# Altium schematic symbol library ESP32_sensor.SchLib: 15 symbols
Pins are listed as number, name and electrical type; pins without a type are passive.

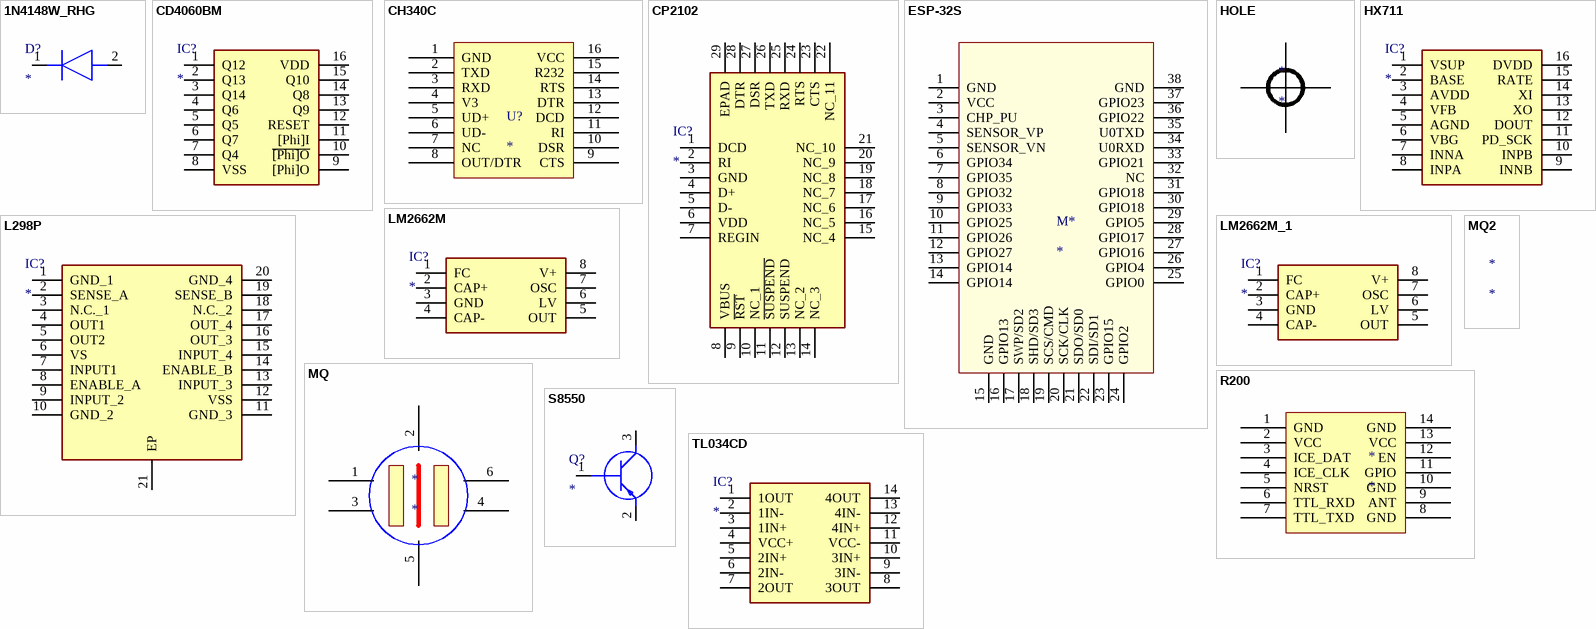
[diagram p0: symbols 1N4148W_RHG to TL034CD]

## 1N4148W_RHG
designator D?
Diode; Manufacturer_Name: Taiwan Semiconductor; Manufacturer_Part_Number: 1N4148W RHG; Datasheet Link: https://mouser.componentsearchengine.com/Datasheets/1/1N4148W RHG.pdf; Height: 1.15mm; Mouser Part Number: 821-1N4148WRHG; Mouser Price/Stock: https://www.mouser.co.uk/ProductDetail/Taiwan-Semiconductor/1N4148W-RHG?qs=KwaGCOX4wIag2YPLXylAvA%3D%3D; Arrow Part Number: 1N4148W RHG; Arrow Price/Stock: https://www.arrow.com/en/products/1n4148wrhg/taiwan-semiconductor?region=nac
footprint 1N4148WRHG
pins: 1 K, 2 A

## CD4060BM
designator IC?
Integrated Circuit; Manufacturer_Name: Texas Instruments; Manufacturer_Part_Number: CD4060BM; Datasheet Link: http://www.ti.com/lit/gpn/cd4060b; Height: 1.75mm; Mouser Part Number: 595-CD4060BM; Mouser Price/Stock: https://www.mouser.co.uk/ProductDetail/Texas-Instruments/CD4060BM?qs=LU5rZWrBGo3KCRuqYExFRQ%3D%3D; Arrow Part Number: CD4060BM; Arrow Price/Stock: https://www.arrow.com/en/products/cd4060bm/texas-instruments?region=nac
footprint SOIC127P600X175-16N
pins: 1 Q12, 2 Q13, 3 Q14, 4 Q6, 5 Q5, 6 Q7, 7 Q4, 8 VSS, 9 [Phi]O, 10 ~{[Phi]O}, 11 [Phi]I, 12 RESET, 13 Q9, 14 Q8, 15 Q10, 16 VDD

## CH340C
designator U?
pins: 1 GND, 2 TXD, 3 RXD, 4 V3, 5 UD+, 6 UD-, 7 NC, 8 OUT/DTR, 9 CTS, 10 DSR, 11 RI, 12 DCD, 13 DTR, 14 RTS, 15 R232, 16 VCC

## CP2102
designator IC?
Integrated Circuit; Manufacturer_Name: Silicon Labs; Manufacturer_Part_Number: CP2102; Datasheet Link: https://componentsearchengine.com/Datasheets/1/CP2102.pdf; Height: 1mm; Mouser Part Number: 634-CP2102; Mouser Price/Stock: https://www.mouser.co.uk/ProductDetail/Silicon-Labs/CP2102?qs=ucY0lxHzU7615lOm95XT0w%3D%3D
footprint QFN50P500X500X100-29N-D
pins: 1 DCD, 2 RI, 3 GND, 4 D+, 5 D-, 6 VDD, 7 REGIN, 8 VBUS, 9 ~{RST}, 10 NC_1, 11 ~{SUSPEND}, 12 SUSPEND, 13 NC_2, 14 NC_3, 15 NC_4, 16 NC_5, 17 NC_6, 18 NC_7, 19 NC_8, 20 NC_9, 21 NC_10, 22 NC_11, 23 CTS, 24 RTS, 25 RXD, 26 TXD, 27 DSR, 28 DTR, 29 EPAD

## ESP-32S
designator M*
footprint ESP-32S
pins: 1 GND, 2 VCC, 3 CHP_PU, 4 SENSOR_VP, 5 SENSOR_VN, 6 GPIO34, 7 GPIO35, 8 GPIO32, 9 GPIO33, 10 GPIO25, 11 GPIO26, 12 GPIO27, 13 GPIO14, 14 GPIO14, 15 GND, 16 GPIO13, 17 SWP/SD2, 18 SHD/SD3, 19 SCS/CMD, 20 SCK/CLK, 21 SDO/SD0, 22 SDI/SD1, 23 GPIO15, 24 GPIO2, 25 GPIO0, 26 GPIO4, 27 GPIO16, 28 GPIO17, 29 GPIO5, 30 GPIO18, 31 GPIO18, 32 NC, 33 GPIO21, 34 U0RXD, 35 U0TXD, 36 GPIO22, 37 GPIO23, 38 GND

## HOLE
designator *
pins: 1

## HX711
designator IC?
Integrated Circuit; Manufacturer_Name: AVIA Semiconductor; Manufacturer_Part_Number: HX711; Datasheet Link: https://cdn.sparkfun.com/datasheets/Sensors/ForceFlex/hx711_english.pdf; Height: 1.6mm
footprint SOIC127P600X160-16N
pins: 1 VSUP, 2 BASE, 3 AVDD, 4 VFB, 5 AGND, 6 VBG, 7 INNA, 8 INPA, 9 INNB, 10 INPB, 11 PD_SCK, 12 DOUT, 13 XO, 14 XI, 15 RATE, 16 DVDD

## L298P
designator IC?
Integrated Circuit; Manufacturer_Name: STMicroelectronics; Manufacturer_Part_Number: L298P; Datasheet Link: https://datasheet.datasheetarchive.com/originals/distributors/Datasheets-32/DSA-634400.pdf; Height: 3.6mm; Mouser Part Number: 511-L298P; Mouser Price/Stock: https://www.mouser.co.uk/ProductDetail/STMicroelectronics/L298P?qs=lDh9v96ogBZNJERYYNX11w%3D%3D; Arrow Part Number: L298P; Arrow Price/Stock: https://www.arrow.com/en/products/l298p/stmicroelectronics
footprint SOIC127P1420X360-21N
pins: 1 GND_1, 2 SENSE_A, 3 N.C._1, 4 OUT1, 5 OUT2, 6 VS, 7 INPUT1, 8 ENABLE_A, 9 INPUT_2, 10 GND_2, 11 GND_3, 12 VSS, 13 INPUT_3, 14 ENABLE_B, 15 INPUT_4, 16 OUT_3, 17 OUT_4, 18 N.C._2, 19 SENSE_B, 20 GND_4, 21 EP

## LM2662M
designator IC?
Integrated Circuit; Manufacturer_Name: Texas Instruments; Manufacturer_Part_Number: LM2662M; Datasheet Link: http://www.ti.com/lit/ds/symlink/lm2662.pdf; Height: 1.75mm; Mouser Part Number: 926-LM2662M; Mouser Price/Stock: https://www.mouser.co.uk/ProductDetail/Texas-Instruments/LM2662M?qs=X1J7HmVL2ZGYcA3VQf2AhQ%3D%3D; Arrow Part Number: LM2662M; Arrow Price/Stock: https://www.arrow.com/en/products/lm2662m/texas-instruments?region=nac
footprint SOIC127P600X175-8N
pins: 1 FC, 2 CAP+, 3 GND, 4 CAP-, 5 OUT, 6 LV, 7 OSC, 8 V+

## LM2662M_1
designator IC?
Integrated Circuit; Manufacturer_Name: Texas Instruments; Manufacturer_Part_Number: LM2662M; Datasheet Link: http://www.ti.com/lit/ds/symlink/lm2662.pdf; Height: 1.75mm; Mouser Part Number: 926-LM2662M; Mouser Price/Stock: https://www.mouser.co.uk/ProductDetail/Texas-Instruments/LM2662M?qs=X1J7HmVL2ZGYcA3VQf2AhQ%3D%3D; Arrow Part Number: LM2662M; Arrow Price/Stock: https://www.arrow.com/en/products/lm2662m/texas-instruments?region=nac
footprint SOIC127P600X175-8N
pins: 1 FC, 2 CAP+, 3 GND, 4 CAP-, 5 OUT, 6 LV, 7 OSC, 8 V+

## MQ
designator *
pins: 1, 2, 3, 4, 5, 6

## MQ2
designator *

## R200
designator *
pins: 1 GND, 2 VCC, 3 ICE_DAT, 4 ICE_CLK, 5 NRST, 6 TTL_RXD, 7 TTL_TXD, 8 GND, 9 ANT, 10 GND, 11 GPIO, 12 EN, 13 VCC, 14 GND

## S8550
designator Q?
Transistor BJT PNP; Manufacturer_Name: Changjiang Electronics Tech (CJ); Manufacturer_Part_Number: S8550; Datasheet Link: https://datasheet.lcsc.com/szlcsc/Changjiang-Electronics-Tech-CJ-S8550_C105432.pdf; Height: 1.15mm
footprint SOT95P240X115-3N
pins: 1 B, 2 E, 3 C

## TL034CD
designator IC?
Integrated Circuit; Manufacturer_Name: Texas Instruments; Manufacturer_Part_Number: TL034CD; Datasheet Link: http://www.ti.com/lit/ds/symlink/tl034.pdf; Height: 1.75mm; Mouser Part Number: 595-TL034CD; Mouser Price/Stock: https://www.mouser.co.uk/ProductDetail/Texas-Instruments/TL034CD?qs=bkMXpVdiF43g5NmR%252BmjIug%3D%3D; Arrow Part Number: TL034CD; Arrow Price/Stock: https://www.arrow.com/en/products/tl034cd/texas-instruments?region=nac
footprint SOIC127P600X175-14N
pins: 1 1OUT, 2 1IN-, 3 1IN+, 4 VCC+, 5 2IN+, 6 2IN-, 7 2OUT, 8 3OUT, 9 3IN-, 10 3IN+, 11 VCC-, 12 4IN+, 13 4IN-, 14 4OUT